# Altium integrated library IC_Hole_Regulator_LM7805.IntLib: 1 symbol
Pins are listed as number, name and electrical type; pins without a type are passive.

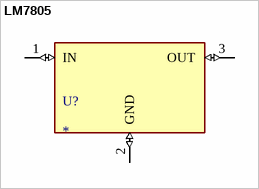
[diagram p0: symbol LM7805]

## LM7805
designator U?
Linear Voltage Regulator IC Positive Fixed 1 Output 1.5A DDPAK/TO-263-3; MP: LM7805; MF: Texas Instruments; Price: None; Availability: In Stock; Package: None; SnapEDA_Link: https://www.snapeda.com/parts/LM7805/Texas+Instruments/view-part/?ref=snap; Check_prices: https://www.snapeda.com/parts/LM7805/Texas+Instruments/view-part/?ref=eda; Value: *; Purchase-URL: https://pricing.snapeda.com/search/part/LM7805/?ref=eda
footprint TO220
pins: 1 IN (io), 2 GND (io), 3 OUT (io)